# EAGLE library part J0006D01B (library pulse-eng)
RJ45 PulseJack w/LEDs
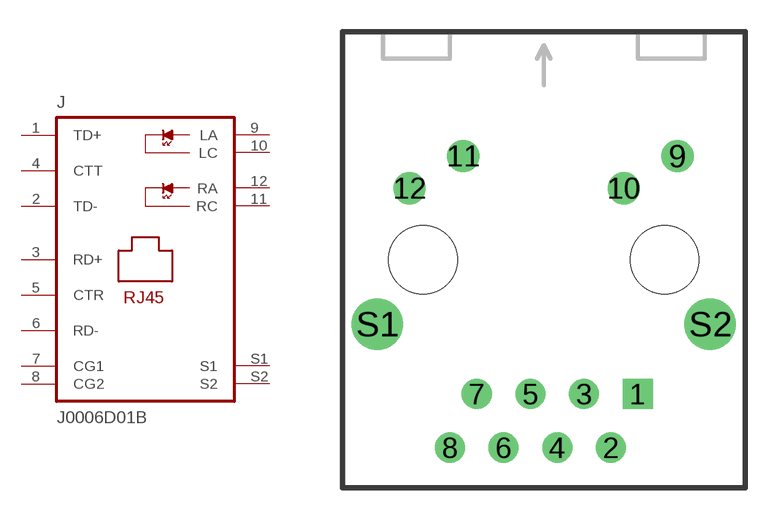
[diagram p5: symbol with the pads of J0-A/B/F; footprint J0-A/B/F]

Designator prefix J

## J0006D01B  [J0-A/B/F]
1  TD+  pas
2  TD-  pas
3  RD+  pas
4  CTT  pas
5  CTR  pas
6  RD-  pas
7  CG1  pas
8  CG2  pas
9  LA  pas
10  LC  pas
11  RC  pas
12  RA  pas
S1  S1  pas
S2  S2  pas

## Footprint J0-A/B/F (pad centres in mm)
J0 Series RJ45 with Ethernet Balun and LED's
drill 0.914 square: 1 4.445,-6.35
drill 0.914 round: 2 3.175,-8.89; 3 1.905,-6.35; 4 0.635,-8.89; 5 -0.635,-6.35; 6 -1.905,-8.89; 7 -3.175,-6.35; 8 -4.445,-8.89
drill 1.016 round: 9 6.325,4.902; 10 3.785,3.378; 11 -3.81,4.902; 12 -6.35,3.378
drill 1.626 round: S1 -7.874,-3.048; S2 7.874,-3.048
hole 3.251 at -5.715,0
hole 3.251 at 5.715,0